# Altium footprint library FOD3182.PcbLib: 1 footprints
Each footprint in its own frame and in the unit in brackets; x right, y up, seen from the top. Pads: shape width x height; smd on the part's side, far side on the other; paste and mask are expansions set on the pad; w line width, h text height; cw(c..) or ccw(c..) is an arc to the next point about the centre after c.
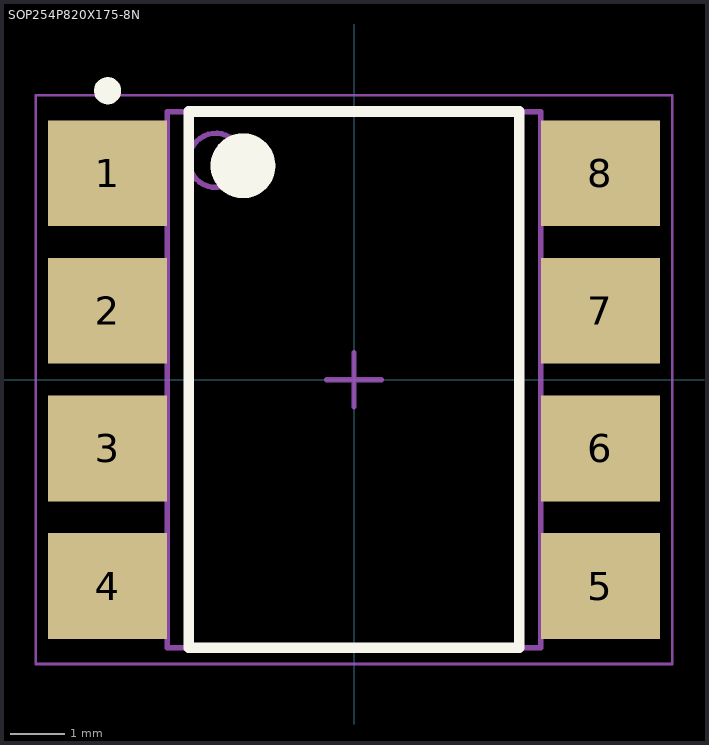
[diagram p0: the footprint, top view; thin cyan lines are the x and y axes]

## SOP254P820X175-8N [mm] "SOP, 8-Leads, Body 9,66x6,60mm, Pitch 2,54mm, IPC Medium Density"
height 1.75
pads (8):
  rect 2.2x1.95 smd: 1(-4.55,3.81) 2(-4.55,1.27) 3(-4.55,-1.27) 4(-4.55,-3.81) 5(4.55,-3.81) 6(4.55,-1.27) 7(4.55,1.27) 8(4.55,3.81)
Top Overlay:
  circle w0.25: c-4.55,5.335 r0.125
  circle w0.6: c-2.05,3.95 r0.3
  lines w0.2: -3.05,-4.95 -3.05,4.95 3.05,4.95 3.05,-4.95 -3.05,-4.95
Mechanical 13:
  circle w0.1: c-2.55,4.05 r0.5
  lines w0.1: -3.45,-4.95 -3.45,4.95 3.45,4.95 3.45,-4.95 -3.45,-4.95
Mechanical 15:
  lines w0.05: -5.875,-5.25 -5.875,5.25 5.875,5.25 5.875,-5.25 -5.875,-5.25
  lines w0.1: -0.5,0 0.5,0 ; 0,-0.5 0,0.5
3D body: height 1.75, standoff 0.51, extent -3.45,-4.95 3.45,4.95